# Altium schematic symbol library Button.SchLib: 1 symbol
Pins are listed as number, name and electrical type; pins without a type are passive.

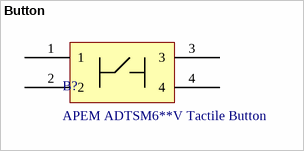
[diagram p0: symbol Button]

## Button
designator B?, comment APEM ADTSM6**V Tactile Button
ADTSM6**V
footprint ADTSM6**V (Tactile button)
pins: 1, 2, 3, 4